# Altium footprint library ECAR_PARTS.PcbLib: 18 footprints (part 1 of 2)
Each footprint in its own frame and in the unit in brackets; x right, y up, seen from the top. Pads: shape width x height; smd on the part's side, far side on the other; paste and mask are expansions set on the pad; w line width, h text height; cw(c..) or ccw(c..) is an arc to the next point about the centre after c.
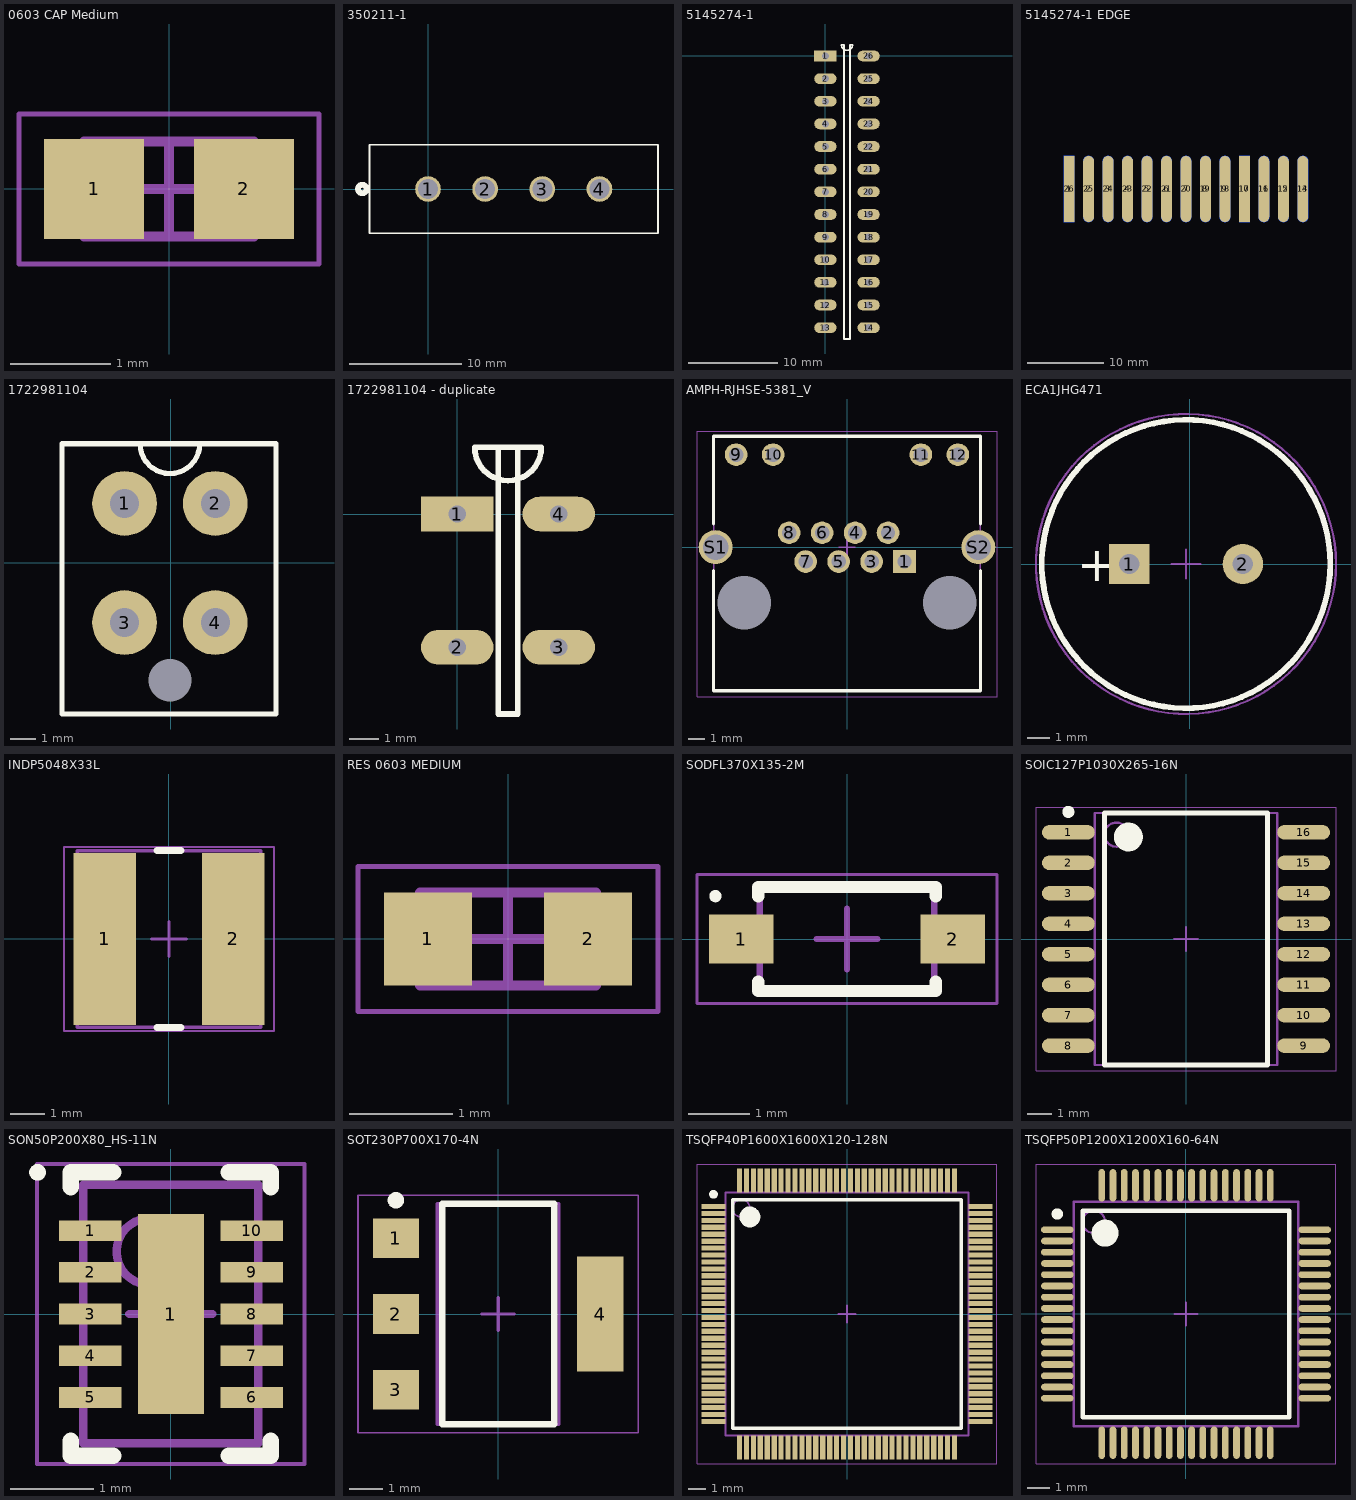
[diagram p0: the footprints below, top view; thin cyan lines are the x and y axes]

## 0603 CAP Medium [mm]
height 0.9
pads (2):
  rect 1x1 smd: 1(-0.75,0) 2(0.75,0)
Mechanical 13:
  lines w0.1: -0.85,-0.475 0.85,-0.475 0.85,0.475 -0.85,0.475 -0.85,-0.475
Mechanical 15:
  lines w0.05: -1.5,-0.75 1.5,-0.75 1.5,0.75 -1.5,0.75 -1.5,-0.75
  lines w0.1: -0.475,0 0.475,0 ; 0,-0.475 0,0.475
3D body "0603 Capacitor Medium.step": height 0.9, standoff 0, extent -0.85,-0.475 0.85,0.475

## 350211-1 [mil]
pads (4):
  round 90 / inner round 60 / far side round 90 hole 70 paste+0 mask+0: 1(0,0) 2(200,0) 3(400,0) 4(600,0)
Top Overlay:
  circle w20: c-230,0 r15
  lines w6: -205,-155 805,-155 805,155 -205,155 -205,-155
Bottom Overlay:
  circle w20: c-230,0 r15
3D body "c-350211-1-af-3d.stp": height 375.2, standoff -164.8, extent -199.99,-212.49 800.01,162.51
3D body: height 10, standoff 0, extent 0,0 10,10

## 5145274-1 [mm]
pads (26):
  rect 2.5x1.2 hole 0.787: 1(0,0)
  oval 2.5x1.2 hole 0.787: 2(0,-2.54) 3(0,-5.08) 4(0,-7.62) 5(0,-10.16) 6(0,-12.7) 7(0,-15.24) 8(0,-17.78) 9(0,-20.32) 10(0,-22.86) 11(0,-25.4) 12(0,-27.94) 13(0,-30.48) 14(4.85,-30.48) 15(4.85,-27.94) 16(4.85,-25.4) 17(4.85,-22.86) 18(4.85,-20.32) 19(4.85,-17.78) 20(4.85,-15.24) 21(4.85,-12.7) 22(4.85,-10.16) 23(4.85,-7.62) 24(4.85,-5.08) 25(4.85,-2.54) 26(4.85,0)
Top Overlay:
  lines w0.2: 1.79,1.27 ccw(c2.425,1.27) 3.06,1.27 2.765,1.27 2.765,-31.75 2.085,-31.75 2.085,1.27 1.79,1.27
3D body "CARD EDGE.stp": height 15.24, standoff -5.06, extent -2.26,-35.052 7.087,4.572

## 5145274-1 EDGE [mm] "PCB EDGE Version of 5145274-1"
pads (26):
  rect 1.4x8.64 smd: 1(-1251.458,254.254) 10(-1228.598,254.254)
  oval 1.4x8.64 smd: 2(-1248.918,254.254) 3(-1246.378,254.254) 4(-1243.838,254.254) 5(-1241.298,254.254) 6(-1238.758,254.254) 7(-1236.218,254.254) 8(-1233.678,254.254) 9(-1231.138,254.254) 11(-1226.058,254.254) 12(-1223.518,254.254) 13(-1220.978,254.254)
  oval 1.4x8.64 smd far side: 14(-1220.978,254.254) 15(-1223.518,254.254) 16(-1226.058,254.254) 18(-1231.138,254.254) 19(-1233.678,254.254) 20(-1236.218,254.254) 21(-1238.758,254.254) 22(-1241.298,254.254) 23(-1243.838,254.254) 24(-1246.378,254.254) 25(-1248.918,254.254)
  rect 1.4x8.64 smd far side: 17(-1228.598,254.254) 26(-1251.458,254.254)

## 1722981104 [mm]
pads (5):
  round 2.5 hole 1.12: 1(-1.778,2.286) 2(1.722,2.286) 3(-1.778,-2.314) 4(1.722,-2.314)
  round 0 hole 1.65: 7(-0.028,-4.544)
Top Overlay:
  lines w0.2: -4.191,-5.842 -4.191,4.586 1.122,4.586 cw(c-0.028,4.586) -1.178,4.586 4.064,4.586 4.064,-5.842 -4.191,-5.842
3D body "1722981104.stp": height 14, standoff -3, extent -4.555,-5.969 4.445,7.941

## 1722981104 - duplicate [mm]
pads (4):
  rect 2.5x1.2 hole 0.6: 1(0,0)
  oval 2.5x1.2 hole 0.6: 2(0,-4.6) 3(3.5,-4.6) 4(3.5,0)
Top Overlay:
  lines w0.2: 0.6,2.3 ccw(c1.75,2.3) 2.9,2.3 1.415,2.3 1.415,-6.9 2.085,-6.9 2.085,2.3 0.6,2.3

## AMPH-RJHSE-5381_V [mm] "THD, 12-Leads, Body 16.51x15.75mm"
height 13.84
pads (16):
  rect 1.4x1.4 hole 0.89 mask+0.102: 1(3.56,-0.89)
  round 1.4 hole 0.89 mask+0.102: 2(2.54,0.89) 3(1.52,-0.89) 4(0.5,0.89) 5(-0.52,-0.89) 6(-1.54,0.89) 7(-2.56,-0.89) 8(-3.58,0.89) 9(-6.86,5.72) 10(-4.57,5.72) 11(4.57,5.72) 12(6.86,5.72)
  round 0 hole 3.3 unplated mask+0.102: MH1(-6.35,-3.43) MH2(6.35,-3.43)
  round 2.1 hole 1.57: S1(-8.13,0) S2(8.13,0)
Top Overlay:
  lines w0.2: -8.255,-1.445 -8.255,-8.89 8.255,-8.89 8.255,-1.445 ; -8.255,1.445 -8.255,6.86 8.255,6.86 8.255,1.445
Mechanical 13:
  lines w0.1: -8.255,-8.89 8.255,-8.89 8.255,6.86 -8.255,6.86 -8.255,-8.89
Mechanical 15:
  lines w0.05: -9.28,-9.244 9.28,-9.244 9.28,7.159 -9.28,7.159 -9.28,-9.244
  lines w0.1: -0.5,0 0.5,0 ; 0,-0.5 0,0.5
3D body "M-RJHSE-538X-REVT1.STEP": height 14.89, standoff -3.96, extent -8.415,-9.144 8.415,7.059

## ECA1JHG471 [mil] "1"
height 826.77
pads (2):
  rect 70x70 hole 35.43: 1(-105,0)
  round 70 hole 35.43: 2(91.85,0)
Top Overlay:
  circle w10: c-6.57,0 r250
  text "+" at -195,-30 h60
Mechanical 15:
  circle w3.94: c-6.57,0 r260
  lines w3.94: -31.57,0 18.43,0 ; -6.57,-25 -6.57,25
3D body: height 787.4, standoff 0, extent -252.59,-245.92 239.54,245.95

## INDP5048X33L [mm] "Precision Wire Wound Inductor, 2-Leads, Body 5.00x4.80mm, IPC High Density"
height 3.3
pads (2):
  rect 1.8x4.95 smd: 1(-1.85,0) 2(1.85,0)
Top Overlay:
  lines w0.2: -0.35,-2.55 0.35,-2.55 ; -0.35,2.55 0.35,2.55
Mechanical 13:
  lines w0.1: -2.65,-2.55 2.65,-2.55 2.65,2.55 -2.65,2.55 -2.65,-2.55
Mechanical 15:
  lines w0.05: -3.025,-2.65 3.025,-2.65 3.025,2.65 -3.025,2.65 -3.025,-2.65
  lines w0.1: -0.5,0 0.5,0 ; 0,-0.5 0,0.5
3D body "INDP5048X33L.step": height 3.4, standoff 0, extent -2.6,-2.45 2.6,2.45

## RES 0603 MEDIUM [mm] "Chip Resistor, 2-Leads, Body 1.60x0.80mm, IPC Medium Density"
height 0.55
pads (2):
  rect 0.85x0.9 smd: 1(-0.775,0) 2(0.775,0)
Mechanical 13:
  lines w0.1: -0.85,-0.45 -0.85,0.45 0.85,0.45 0.85,-0.45 -0.85,-0.45
Mechanical 15:
  lines w0.05: -1.45,-0.7 -1.45,0.7 1.45,0.7 1.45,-0.7 -1.45,-0.7
  lines w0.1: -0.45,0 0.45,0 ; 0,-0.45 0,0.45
3D body: height 0.55, standoff 0, extent -0.85,-0.45 0.85,0.45

## SODFL370X135-2M [mm] "SODFL, 2-Leads, Body 1.55x3.70mm, IPC Low Density"
height 1.35
pads (2):
  rect 1.05x0.8 smd: 1(-1.725,0) 2(1.725,0)
Top Overlay:
  circle w0.1: c-2.15,0.7 r0.05
  lines w0.2: -1.45,-0.7 -1.45,-0.85 1.45,-0.85 1.45,-0.7 ; -1.45,0.7 -1.45,0.85 1.45,0.85 1.45,0.7
Mechanical 13:
  lines w0.1: -1.425,-0.85 1.425,-0.85 1.425,0.85 -1.425,0.85 -1.425,-0.85
Mechanical 15:
  lines w0.05: -2.45,-1.05 2.45,-1.05 2.45,1.05 -2.45,1.05 -2.45,-1.05
  lines w0.1: -0.5,0 0.5,0 ; 0,-0.5 0,0.5
3D body "SODFL370X135-2M.step": height 1.35, standoff 0, extent -1.85,-0.85 1.85,0.85

## SOIC127P1030X265-16N [mm] "SOIC, 16-Leads, Body 10.30x7.50mm, Pitch 1.27mm, IPC Medium Density"
height 2.65
pads (16):
  oval 2.2x0.6 smd: 1(-4.9,4.445) 2(-4.9,3.175) 3(-4.9,1.905) 4(-4.9,0.635) 5(-4.9,-0.635) 6(-4.9,-1.905) 7(-4.9,-3.175) 8(-4.9,-4.445) 9(4.9,-4.445) 10(4.9,-3.175) 11(4.9,-1.905) 12(4.9,-0.635) 13(4.9,0.635) 14(4.9,1.905) 15(4.9,3.175) 16(4.9,4.445)
Top Overlay:
  circle w0.25: c-4.9,5.295 r0.125
  circle w0.6: c-2.4,4.25 r0.3
  lines w0.2: -3.4,-5.25 -3.4,5.25 3.4,5.25 3.4,-5.25 -3.4,-5.25
Mechanical 13:
  circle w0.1: c-2.9,4.35 r0.5
  lines w0.1: -3.8,-5.25 -3.8,5.25 3.8,5.25 3.8,-5.25 -3.8,-5.25
Mechanical 15:
  lines w0.05: -6.25,-5.5 -6.25,5.5 6.25,5.5 6.25,-5.5 -6.25,-5.5
  lines w0.1: -0.5,0 0.5,0 ; 0,-0.5 0,0.5
3D body "SOIC127P1030X265-16N.step": height 2.65, standoff 0, extent -5.162,-5.25 5.162,5.25

## SON50P200X80_HS-11N [mm] "SON, 10-Leads, Body 3.00x2.00mm, Pitch 0.50mm, Thermal Pad 2.40x0.79mm, IPC Medium Density"
height 0.8
pads (11):
  rect 0.75x0.25 smd: 1(-0.97,1) 2(-0.97,0.5) 3(-0.97,0) 4(-0.97,-0.5) 5(-0.97,-1) 6(0.97,-1) 7(0.97,-0.5) 8(0.97,0) 9(0.97,0.5) 10(0.97,1)
  rect 0.79x2.4 smd: 1(0,0)
Top Overlay:
  circle w0.1: c-1.6,1.7 r0.05
  lines w0.2: -1.2,-1.525 -1.2,-1.7 -0.695,-1.7 ; -1.2,1.525 -1.2,1.7 -0.695,1.7 ; 0.695,-1.7 1.2,-1.7 1.2,-1.525 ; 0.695,1.7 1.2,1.7 1.2,1.525
Mechanical 13:
  circle w0.1: c-0.25,0.75 r0.4
  lines w0.1: -1.05,-1.55 -1.05,1.55 1.05,1.55 1.05,-1.55 -1.05,-1.55
Mechanical 15:
  lines w0.05: -1.605,-1.8 -1.605,1.8 1.605,1.8 1.605,-1.8 -1.605,-1.8
  lines w0.1: -0.5,0 0.5,0 ; 0,-0.5 0,0.5
3D body "SON50P200X80_HS-11N.step": height 0.8, standoff 0, extent -1.13,-1.55 1.13,1.55

## SOT230P700X170-4N [mm] "SOT223, 4-Leads, Body 6.50x7.00mm (avg), Pitch 2.30mm, IPC Medium Density"
height 1.7
pads (4):
  rect 1.4x1.2 smd: 1(-3.1,2.3) 2(-3.1,0) 3(-3.1,-2.3)
  rect 1.4x3.5 smd: 4(3.1,0)
Top Overlay:
  circle w0.25: c-3.1,3.45 r0.125
  lines w0.2: -1.7,-3.35 1.7,-3.35 1.7,3.35 -1.7,3.35 -1.7,-3.35
Mechanical 13:
  lines w0.1: -1.85,-3.35 1.85,-3.35 1.85,3.35 -1.85,3.35 -1.85,-3.35
Mechanical 15:
  lines w0.05: -4.25,-3.6 4.25,-3.6 4.25,3.6 -4.25,3.6 -4.25,-3.6
  lines w0.1: -0.5,0 0.5,0 ; 0,-0.5 0,0.5
3D body "SOT230P700X170-4N.step": height 1.7, standoff 0, extent -3.5,-3.35 3.5,3.35

## TSQFP40P1600X1600X120-128N [mm] "TSQFP, 128-Leads, Body 14.00x14.00mm, Pitch 0.40mm, IPC Medium Density"
height 1.2
pads (128):
  rect 1.4x0.3 smd: 1(-7.7,6.2) 2(-7.7,5.8) 3(-7.7,5.4) 4(-7.7,5) 5(-7.7,4.6) 6(-7.7,4.2) 7(-7.7,3.8) 8(-7.7,3.4) 9(-7.7,3) 10(-7.7,2.6) 11(-7.7,2.2) 12(-7.7,1.8) 13(-7.7,1.4) 14(-7.7,1) 15(-7.7,0.6) 16(-7.7,0.2) 17(-7.7,-0.2) 18(-7.7,-0.6) 19(-7.7,-1) 20(-7.7,-1.4) 21(-7.7,-1.8) 22(-7.7,-2.2) 23(-7.7,-2.6) 24(-7.7,-3) 25(-7.7,-3.4) 26(-7.7,-3.8) 27(-7.7,-4.2) 28(-7.7,-4.6) 29(-7.7,-5) 30(-7.7,-5.4) 31(-7.7,-5.8) 32(-7.7,-6.2) 65(7.7,-6.2) 66(7.7,-5.8) 67(7.7,-5.4) 68(7.7,-5) 69(7.7,-4.6) 70(7.7,-4.2) 71(7.7,-3.8) 72(7.7,-3.4) 73(7.7,-3) 74(7.7,-2.6) 75(7.7,-2.2) 76(7.7,-1.8) 77(7.7,-1.4) 78(7.7,-1) 79(7.7,-0.6) 80(7.7,-0.2) 81(7.7,0.2) 82(7.7,0.6) 83(7.7,1) 84(7.7,1.4) 85(7.7,1.8) 86(7.7,2.2) 87(7.7,2.6) 88(7.7,3) 89(7.7,3.4) 90(7.7,3.8) 91(7.7,4.2) 92(7.7,4.6) 93(7.7,5) 94(7.7,5.4) 95(7.7,5.8) 96(7.7,6.2)
  rect 0.3x1.4 smd: 33(-6.2,-7.7) 34(-5.8,-7.7) 35(-5.4,-7.7) 36(-5,-7.7) 37(-4.6,-7.7) 38(-4.2,-7.7) 39(-3.8,-7.7) 40(-3.4,-7.7) 41(-3,-7.7) 42(-2.6,-7.7) 43(-2.2,-7.7) 44(-1.8,-7.7) 45(-1.4,-7.7) 46(-1,-7.7) 47(-0.6,-7.7) 48(-0.2,-7.7) 49(0.2,-7.7) 50(0.6,-7.7) 51(1,-7.7) 52(1.4,-7.7) 53(1.8,-7.7) 54(2.2,-7.7) 55(2.6,-7.7) 56(3,-7.7) 57(3.4,-7.7) 58(3.8,-7.7) 59(4.2,-7.7) 60(4.6,-7.7) 61(5,-7.7) 62(5.4,-7.7) 63(5.8,-7.7) 64(6.2,-7.7) 97(6.2,7.7) 98(5.8,7.7) 99(5.4,7.7) 100(5,7.7) 101(4.6,7.7) 102(4.2,7.7) 103(3.8,7.7) 104(3.4,7.7) 105(3,7.7) 106(2.6,7.7) 107(2.2,7.7) 108(1.8,7.7) 109(1.4,7.7) 110(1,7.7) 111(0.6,7.7) 112(0.2,7.7) 113(-0.2,7.7) 114(-0.6,7.7) 115(-1,7.7) 116(-1.4,7.7) 117(-1.8,7.7) 118(-2.2,7.7) 119(-2.6,7.7) 120(-3,7.7) 121(-3.4,7.7) 122(-3.8,7.7) 123(-4.2,7.7) 124(-4.6,7.7) 125(-5,7.7) 126(-5.4,7.7) 127(-5.8,7.7) 128(-6.2,7.7)
Top Overlay:
  circle w0.25: c-7.7,6.9 r0.125
  circle w0.6: c-5.6,5.6 r0.3
  lines w0.2: -6.6,-6.6 -6.6,6.6 6.6,6.6 6.6,-6.6 -6.6,-6.6
Mechanical 13:
  circle w0.1: c-6.1,6.1 r0.5
  lines w0.1: -7,-7 -7,7 7,7 7,-7 -7,-7
Mechanical 15:
  lines w0.05: -8.65,-8.65 -8.65,8.65 8.65,8.65 8.65,-8.65 -8.65,-8.65
  lines w0.1: -0.5,0 0.5,0 ; 0,-0.5 0,0.5
3D body "TSQFP40P1600X1600X120-128N.step": height 1.2, standoff 0, extent -8,-8 8,8

## TSQFP50P1200X1200X160-64N [mm] "TSQFP, 64-Leads, Body 10.00x10.00mm, Pitch 0.50mm, IPC Medium Density"
height 1.6
pads (64):
  oval 1.45x0.3 smd: 1(-5.725,3.75) 2(-5.725,3.25) 3(-5.725,2.75) 4(-5.725,2.25) 5(-5.725,1.75) 6(-5.725,1.25) 7(-5.725,0.75) 8(-5.725,0.25) 9(-5.725,-0.25) 10(-5.725,-0.75) 11(-5.725,-1.25) 12(-5.725,-1.75) 13(-5.725,-2.25) 14(-5.725,-2.75) 15(-5.725,-3.25) 16(-5.725,-3.75) 33(5.725,-3.75) 34(5.725,-3.25) 35(5.725,-2.75) 36(5.725,-2.25) 37(5.725,-1.75) 38(5.725,-1.25) 39(5.725,-0.75) 40(5.725,-0.25) 41(5.725,0.25) 42(5.725,0.75) 43(5.725,1.25) 44(5.725,1.75) 45(5.725,2.25) 46(5.725,2.75) 47(5.725,3.25) 48(5.725,3.75)
  oval 0.3x1.45 smd: 17(-3.75,-5.725) 18(-3.25,-5.725) 19(-2.75,-5.725) 20(-2.25,-5.725) 21(-1.75,-5.725) 22(-1.25,-5.725) 23(-0.75,-5.725) 24(-0.25,-5.725) 25(0.25,-5.725) 26(0.75,-5.725) 27(1.25,-5.725) 28(1.75,-5.725) 29(2.25,-5.725) 30(2.75,-5.725) 31(3.25,-5.725) 32(3.75,-5.725) 49(3.75,5.725) 50(3.25,5.725) 51(2.75,5.725) 52(2.25,5.725) 53(1.75,5.725) 54(1.25,5.725) 55(0.75,5.725) 56(0.25,5.725) 57(-0.25,5.725) 58(-0.75,5.725) 59(-1.25,5.725) 60(-1.75,5.725) 61(-2.25,5.725) 62(-2.75,5.725) 63(-3.25,5.725) 64(-3.75,5.725)
Top Overlay:
  circle w0.6: c-3.6,3.6 r0.3
  circle w0.25: c-5.725,4.45 r0.125
  lines w0.2: -4.6,-4.6 4.6,-4.6 4.6,4.6 -4.6,4.6 -4.6,-4.6
Mechanical 13:
  circle w0.1: c-4.1,4.1 r0.5
  lines w0.1: -5,-5 5,-5 5,5 -5,5 -5,-5
Mechanical 15:
  lines w0.05: -6.675,-6.675 6.675,-6.675 6.675,6.675 -6.675,6.675 -6.675,-6.675
  lines w0.1: -0.5,0 0.5,0 ; 0,-0.5 0,0.5
3D body "TSQFP50P1200X1200X160-64N.step": height 1.6, standoff 0, extent -6,-6 6,6